# Altium footprint library ICs_OpAmps.PcbLib: 1 footprints
Each footprint in its own frame and in the unit in brackets; x right, y up, seen from the top. Pads: shape width x height; smd on the part's side, far side on the other; paste and mask are expansions set on the pad; w line width, h text height; cw(c..) or ccw(c..) is an arc to the next point about the centre after c.
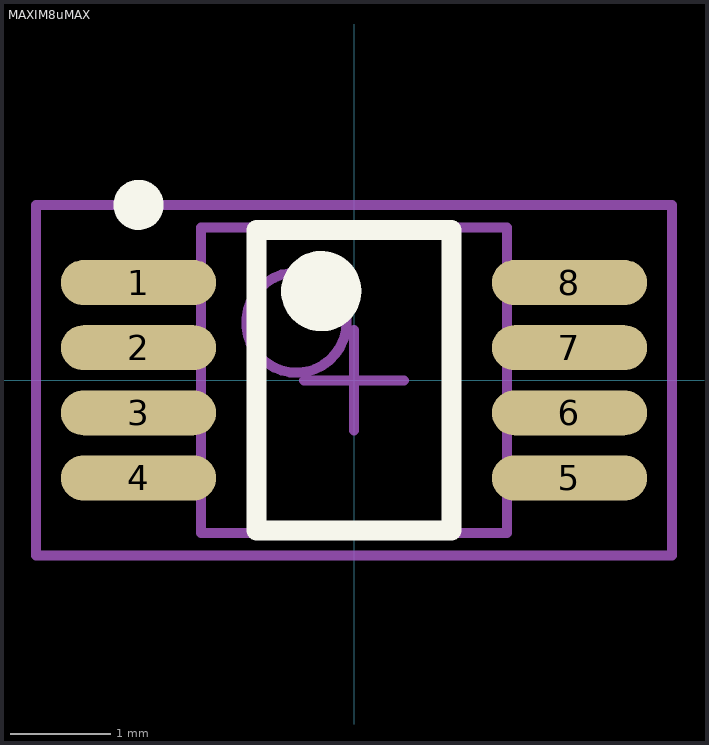
[diagram p0: the footprint, top view; thin cyan lines are the x and y axes]

## MAXIM8uMAX [mm] "TSOP, 8-Leads, Body 3.0x3.0mm (max), Pitch 0.65mm, IPC Medium Density"
height 1.1
pads (8):
  oval 1.55x0.45 smd: 1(-2.15,0.975) 2(-2.15,0.325) 3(-2.15,-0.325) 4(-2.15,-0.975) 5(2.15,-0.975) 6(2.15,-0.325) 7(2.15,0.325) 8(2.15,0.975)
Top Overlay:
  circle w0.4: c-0.327,0.889 r0.2
  circle w0.25: c-2.15,1.75 r0.125
  lines w0.2: -0.975,-1.5 0.975,-1.5 0.975,1.5 -0.975,1.5 -0.975,-1.5
Mechanical 13:
  circle w0.1: c-0.575,0.575 r0.5
  lines w0.1: -1.525,-1.525 1.525,-1.525 1.525,1.525 -1.525,1.525 -1.525,-1.525
Mechanical 15:
  lines w0.1: -0.5,0 0.5,0 ; 0,-0.5 0,0.5 ; -3.175,-1.75 3.175,-1.75 3.175,1.75 -3.175,1.75 -3.175,-1.75
3D body: height 0.95, standoff 0, extent -2.475,-1.499 2.526,1.501